# EAGLE library part LAN_PORT (library F030NG)
Horizontal Shielded Mini DIN, 8 pins
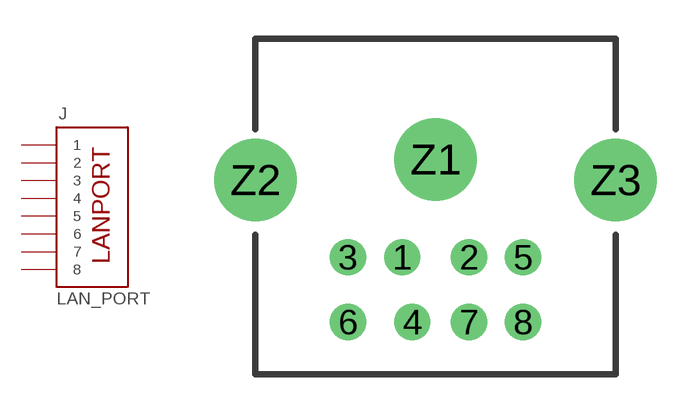
[diagram p31: symbol with the pads of MINI_DIN8P; footprint MINI_DIN8P]

Designator prefix J

## LAN_PORT  [MINI_DIN8P]
1  2  pas
2  1  pas
3  5  pas
4  7  pas
5  3  pas
6  8  pas
7  4  pas
8  6  pas

## Footprint MINI_DIN8P (pad centres in mm)
NINIGI_MDC-208 Horizontal Shielded Mini DIN, 8 pins
drill 0.9: 1 -1.29,-8.5; 2 1.3,-8.5; 3 -3.405,-8.5; 4 -0.9,-11.02; 5 3.405,-8.5; 6 -3.405,-11.02; 7 1.3,-11.02; 8 3.405,-11.02
drill 2.2: Z1 0,-4.7; Z2 -7,-5.5; Z3 7,-5.5